# Altium integrated library Capacitor - Ceramic - Sumsung.IntLib: 1421 symbols (part 20 of 22)
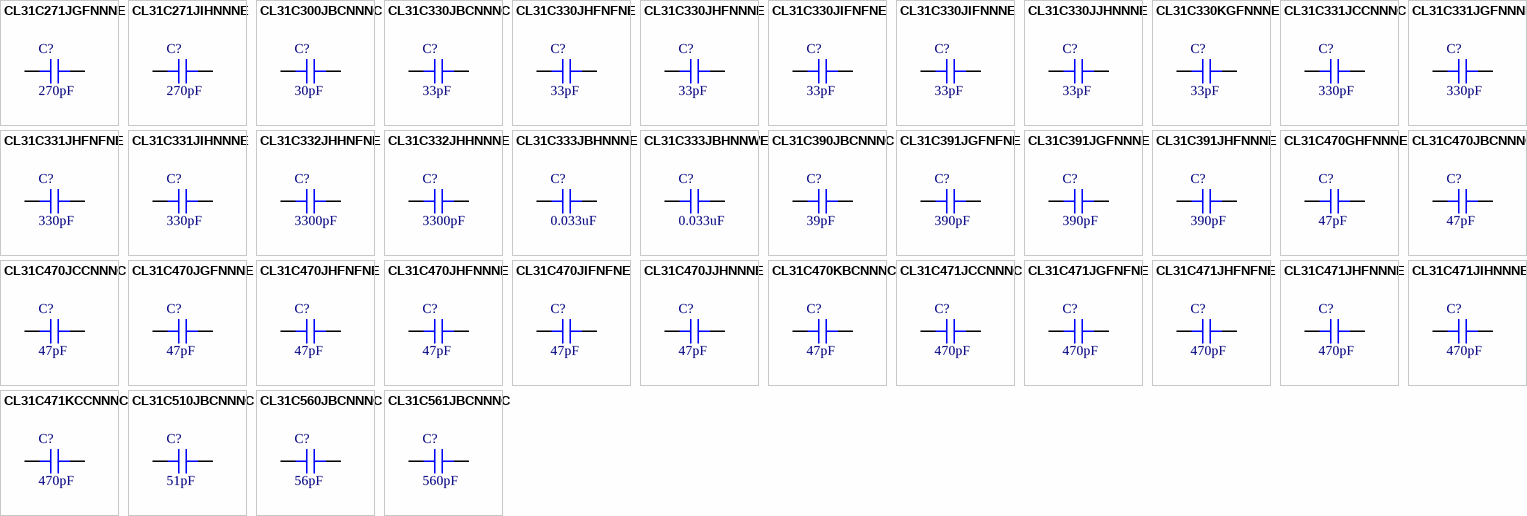
[diagram p54: symbols CL31C271JGFNNNE to CL31C561JBCNNNC]

## CL31C470JGFNNNE
designator C?, comment 47pF
CAP CER 47PF 500V NP0 1206; Part Number: CL31C470JGFNNNE; Manufacturer: Samsung Electro-Mechanics America, Inc.; TemperatureRange: -55C ~ 125C; TemperatureCoefficient: C0G, NP0; Tolerance: 5%; Value: 47pF; PartId: 15430; Supplier 1: Digi-Key; Supplier Part Number 1: 1276-3267-2-ND; ComponentLink1Description: Datasheet; ComponentLink1URL: http://www.samsungsem.com/kr/support/product-search/mlcc/CL31C470JGFNNNE.jsp; ComponentLink2Description: Digi-Key Listing; ComponentLink2URL: https://www.digikey.com/product-detail/en/samsung-electro-mechanics-america-inc/CL31C470JGFNNNE/1276-3267-2-ND/3888925; Voltage: 500V; Price: 0.042; Device Package: 1206 (3216 Metric)
footprint CAP 1206/3216
pins: 1, 2

## CL31C470JHFNFNE
designator C?, comment 47pF
CAP CER 47PF 630V NP0 1206; Part Number: CL31C470JHFNFNE; Manufacturer: Samsung Electro-Mechanics America, Inc.; TemperatureRange: -55C ~ 125C; TemperatureCoefficient: C0G, NP0; Tolerance: 5%; Value: 47pF; PartId: 15486; Supplier 1: Digi-Key; Supplier Part Number 1: 1276-3268-2-ND; ComponentLink1Description: Datasheet; ComponentLink1URL: http://www.samsungsem.com/kr/support/product-search/mlcc/CL31C470JHFNFNE.jsp; ComponentLink2Description: Digi-Key Listing; ComponentLink2URL: https://www.digikey.com/product-detail/en/samsung-electro-mechanics-america-inc/CL31C470JHFNFNE/1276-3268-2-ND/3888926; Voltage: 630V; Price: 0.0834; Device Package: 1206 (3216 Metric)
footprint CAP 1206/3216
pins: 1, 2

## CL31C470JHFNNNE
designator C?, comment 47pF
CAP CER 47PF 630V NP0 1206; Part Number: CL31C470JHFNNNE; Manufacturer: Samsung Electro-Mechanics America, Inc.; TemperatureRange: -55C ~ 125C; TemperatureCoefficient: C0G, NP0; Tolerance: 5%; Value: 47pF; PartId: 15418; Supplier 1: Digi-Key; Supplier Part Number 1: 1276-3269-2-ND; ComponentLink1Description: Datasheet; ComponentLink1URL: http://www.samsungsem.com/kr/support/product-search/mlcc/CL31C470JHFNNNE.jsp; ComponentLink2Description: Digi-Key Listing; ComponentLink2URL: https://www.digikey.com/product-detail/en/samsung-electro-mechanics-america-inc/CL31C470JHFNNNE/1276-3269-2-ND/3888927; Voltage: 630V; Price: 0.0709; Device Package: 1206 (3216 Metric)
footprint CAP 1206/3216
pins: 1, 2

## CL31C470JIFNFNE
designator C?, comment 47pF
CAP CER 47PF 1KV NP0 1206; Part Number: CL31C470JIFNFNE; Manufacturer: Samsung Electro-Mechanics America, Inc.; TemperatureRange: -55C ~ 125C; TemperatureCoefficient: C0G, NP0; Tolerance: 5%; Voltage: 1000V (1kV); Value: 47pF; PartId: 15404; Supplier 1: Digi-Key; Supplier Part Number 1: 1276-3270-2-ND; ComponentLink1Description: Datasheet; ComponentLink1URL: http://www.samsungsem.com/kr/support/product-search/mlcc/CL31C470JIFNFNE.jsp; ComponentLink2Description: Digi-Key Listing; ComponentLink2URL: https://www.digikey.com/product-detail/en/samsung-electro-mechanics-america-inc/CL31C470JIFNFNE/1276-3270-2-ND/3888928; Price: 0.0374; Device Package: 1206 (3216 Metric)
footprint CAP 1206/3216
pins: 1, 2

## CL31C470JJHNNNE
designator C?, comment 47pF
CAP CER 47PF 2KV NP0 1206; Part Number: CL31C470JJHNNNE; Manufacturer: Samsung Electro-Mechanics America, Inc.; TemperatureRange: -55C ~ 125C; TemperatureCoefficient: C0G, NP0; Tolerance: 5%; Voltage: 2000V (2kV); Value: 47pF; PartId: 15487; Supplier 1: Digi-Key; Supplier Part Number 1: 1276-3272-2-ND; ComponentLink1Description: Datasheet; ComponentLink1URL: http://www.samsungsem.com/kr/support/product-search/mlcc/CL31C470JJHNNNE.jsp; ComponentLink2Description: Digi-Key Listing; ComponentLink2URL: https://www.digikey.com/product-detail/en/samsung-electro-mechanics-america-inc/CL31C470JJHNNNE/1276-3272-2-ND/3888930; Price: 0.0874; Device Package: 1206 (3216 Metric)
footprint CAP 1206/3216
pins: 1, 2

## CL31C470KBCNNNC
designator C?, comment 47pF
CAP CER 47PF 50V NP0 1206; Part Number: CL31C470KBCNNNC; Manufacturer: Samsung Electro-Mechanics America, Inc.; TemperatureRange: -55C ~ 125C; TemperatureCoefficient: C0G, NP0; Tolerance: 10%; Value: 47pF; PartId: 17290; Supplier 1: Digi-Key; Supplier Part Number 1: 1276-2839-2-ND; ComponentLink1Description: Datasheet; ComponentLink1URL: http://www.samsungsem.com/kr/support/product-search/mlcc/__icsFiles/afieldfile/2016/08/18/S_CL31C470KBCNNNC.pdf; ComponentLink2Description: Digi-Key Listing; ComponentLink2URL: https://www.digikey.com/product-detail/en/samsung-electro-mechanics-america-inc/CL31C470KBCNNNC/1276-2839-2-ND/3888497; Voltage: 50V; Price: 0.0346; Device Package: 1206 (3216 Metric)
footprint CAP 1206/3216 - 1.0MM
pins: 1, 2

## CL31C471JCCNNNC
designator C?, comment 470pF
CAP CER 470PF 100V NP0 1206; Part Number: CL31C471JCCNNNC; Manufacturer: Samsung Electro-Mechanics America, Inc.; TemperatureRange: -55C ~ 125C; TemperatureCoefficient: C0G, NP0; Tolerance: 5%; Value: 470pF; PartId: 17211; Supplier 1: Digi-Key; Supplier Part Number 1: 1276-2840-2-ND; ComponentLink1Description: Datasheet; ComponentLink1URL: http://www.samsungsem.com/kr/support/product-search/mlcc/__icsFiles/afieldfile/2016/08/18/S_CL31C471JCCNNNC.pdf; ComponentLink2Description: Digi-Key Listing; ComponentLink2URL: https://www.digikey.com/product-detail/en/samsung-electro-mechanics-america-inc/CL31C471JCCNNNC/1276-2840-2-ND/3888498; Voltage: 100V; Price: 0.0783; Device Package: 1206 (3216 Metric)
footprint CAP 1206/3216 - 1.0MM
pins: 1, 2

## CL31C471JGFNFNE
designator C?, comment 470pF
CAP CER 470PF 500V NP0 1206; Part Number: CL31C471JGFNFNE; Manufacturer: Samsung Electro-Mechanics America, Inc.; TemperatureRange: -55C ~ 125C; TemperatureCoefficient: C0G, NP0; Tolerance: 5%; Value: 470pF; PartId: 15482; Supplier 1: Digi-Key; Supplier Part Number 1: 1276-3274-2-ND; ComponentLink1Description: Datasheet; ComponentLink1URL: http://www.samsungsem.com/kr/support/product-search/mlcc/CL31C471JGFNFNE.jsp; ComponentLink2Description: Digi-Key Listing; ComponentLink2URL: https://www.digikey.com/product-detail/en/samsung-electro-mechanics-america-inc/CL31C471JGFNFNE/1276-3274-2-ND/3888932; Voltage: 500V; Price: 0.0563; Device Package: 1206 (3216 Metric)
footprint CAP 1206/3216
pins: 1, 2

## CL31C471JHFNFNE
designator C?, comment 470pF
CAP CER 470PF 630V NP0 1206; Part Number: CL31C471JHFNFNE; Manufacturer: Samsung Electro-Mechanics America, Inc.; TemperatureRange: -55C ~ 125C; TemperatureCoefficient: C0G, NP0; Tolerance: 5%; Value: 470pF; PartId: 15453; Supplier 1: Digi-Key; Supplier Part Number 1: 1276-3277-2-ND; ComponentLink1Description: Datasheet; ComponentLink1URL: http://www.samsungsem.com/kr/support/product-search/mlcc/CL31C471JHFNFNE.jsp; ComponentLink2Description: Digi-Key Listing; ComponentLink2URL: https://www.digikey.com/product-detail/en/samsung-electro-mechanics-america-inc/CL31C471JHFNFNE/1276-3277-2-ND/3888935; Voltage: 630V; Price: 0.0582; Device Package: 1206 (3216 Metric)
footprint CAP 1206/3216
pins: 1, 2

## CL31C471JHFNNNE
designator C?, comment 470pF
CAP CER 470PF 630V NP0 1206; Part Number: CL31C471JHFNNNE; Manufacturer: Samsung Electro-Mechanics America, Inc.; TemperatureRange: -55C ~ 125C; TemperatureCoefficient: C0G, NP0; Tolerance: 5%; Value: 470pF; PartId: 15454; Supplier 1: Digi-Key; Supplier Part Number 1: 1276-3278-2-ND; ComponentLink1Description: Datasheet; ComponentLink1URL: http://www.samsungsem.com/kr/support/product-search/mlcc/CL31C471JHFNNNE.jsp; ComponentLink2Description: Digi-Key Listing; ComponentLink2URL: https://www.digikey.com/product-detail/en/samsung-electro-mechanics-america-inc/CL31C471JHFNNNE/1276-3278-2-ND/3888936; Voltage: 630V; Price: 0.0582; Device Package: 1206 (3216 Metric)
footprint CAP 1206/3216
pins: 1, 2

## CL31C471JIHNNNE
designator C?, comment 470pF
CAP CER 470PF 1KV NP0 1206; Part Number: CL31C471JIHNNNE; Manufacturer: Samsung Electro-Mechanics America, Inc.; TemperatureRange: -55C ~ 125C; TemperatureCoefficient: C0G, NP0; Tolerance: 5%; Voltage: 1000V (1kV); Value: 470pF; PartId: 17928; Supplier 1: Digi-Key; Supplier Part Number 1: 1276-3279-2-ND; ComponentLink1Description: Datasheet; ComponentLink1URL: http://www.samsungsem.com/kr/support/product-search/mlcc/__icsFiles/afieldfile/2016/08/18/S_CL31C471JIHNNNE.pdf; ComponentLink2Description: Digi-Key Listing; ComponentLink2URL: https://www.digikey.com/product-detail/en/samsung-electro-mechanics-america-inc/CL31C471JIHNNNE/1276-3279-2-ND/3888937; Price: 0.1926; Device Package: 1206 (3216 Metric)
footprint CAP 1206/3216 - 1.8MM
pins: 1, 2

## CL31C471KCCNNNC
designator C?, comment 470pF
CAP CER 470PF 100V NP0 1206; Part Number: CL31C471KCCNNNC; Manufacturer: Samsung Electro-Mechanics America, Inc.; TemperatureRange: -55C ~ 125C; TemperatureCoefficient: C0G, NP0; Tolerance: 10%; Value: 470pF; PartId: 17151; Supplier 1: Digi-Key; Supplier Part Number 1: 1276-2842-2-ND; ComponentLink1Description: Datasheet; ComponentLink1URL: http://www.samsungsem.com/kr/support/product-search/mlcc/__icsFiles/afieldfile/2016/08/18/S_CL31C471KCCNNNC.pdf; ComponentLink2Description: Digi-Key Listing; ComponentLink2URL: https://www.digikey.com/product-detail/en/samsung-electro-mechanics-america-inc/CL31C471KCCNNNC/1276-2842-2-ND/3888500; Voltage: 100V; Price: 0.0256; Device Package: 1206 (3216 Metric)
footprint CAP 1206/3216 - 1.0MM
pins: 1, 2

## CL31C510JBCNNNC
designator C?, comment 51pF
CAP CER 51PF 50V NP0 1206; Part Number: CL31C510JBCNNNC; Manufacturer: Samsung Electro-Mechanics America, Inc.; TemperatureRange: -55C ~ 125C; TemperatureCoefficient: C0G, NP0; Tolerance: 5%; Value: 51pF; PartId: 17298; Supplier 1: Digi-Key; Supplier Part Number 1: 1276-2844-2-ND; ComponentLink1Description: Datasheet; ComponentLink1URL: http://www.samsungsem.com/kr/support/product-search/mlcc/__icsFiles/afieldfile/2016/08/18/S_CL31C510JBCNNNC.pdf; ComponentLink2Description: Digi-Key Listing; ComponentLink2URL: https://www.digikey.com/product-detail/en/samsung-electro-mechanics-america-inc/CL31C510JBCNNNC/1276-2844-2-ND/3888502; Voltage: 50V; Price: 0.0131; Device Package: 1206 (3216 Metric)
footprint CAP 1206/3216 - 1.0MM
pins: 1, 2

## CL31C560JBCNNNC
designator C?, comment 56pF
CAP CER 56PF 50V NP0 1206; Part Number: CL31C560JBCNNNC; Manufacturer: Samsung Electro-Mechanics America, Inc.; TemperatureRange: -55C ~ 125C; TemperatureCoefficient: C0G, NP0; Tolerance: 5%; Value: 56pF; PartId: 17083; Supplier 1: Digi-Key; Supplier Part Number 1: 1276-1266-2-ND; ComponentLink1Description: Datasheet; ComponentLink1URL: http://www.samsungsem.com/kr/support/product-search/mlcc/__icsFiles/afieldfile/2016/08/18/S_CL31C560JBCNNNC.pdf; ComponentLink2Description: Digi-Key Listing; ComponentLink2URL: https://www.digikey.com/product-detail/en/samsung-electro-mechanics-america-inc/CL31C560JBCNNNC/1276-1266-2-ND/3886924; Voltage: 50V; Price: 0.033; Device Package: 1206 (3216 Metric)
footprint CAP 1206/3216 - 1.0MM
pins: 1, 2

## CL31C561JBCNNNC
designator C?, comment 560pF
CAP CER 560PF 50V NP0 1206; Part Number: CL31C561JBCNNNC; Manufacturer: Samsung Electro-Mechanics America, Inc.; TemperatureRange: -55C ~ 125C; TemperatureCoefficient: C0G, NP0; Tolerance: 5%; Value: 560pF; PartId: 17162; Supplier 1: Digi-Key; Supplier Part Number 1: 1276-2845-2-ND; ComponentLink1Description: Datasheet; ComponentLink1URL: http://www.samsungsem.com/kr/support/product-search/mlcc/__icsFiles/afieldfile/2016/08/18/S_CL31C561JBCNNNC.pdf; ComponentLink2Description: Digi-Key Listing; ComponentLink2URL: https://www.digikey.com/product-detail/en/samsung-electro-mechanics-america-inc/CL31C561JBCNNNC/1276-2845-2-ND/3888503; Voltage: 50V; Price: 0.0511; Device Package: 1206 (3216 Metric)
footprint CAP 1206/3216 - 1.0MM
pins: 1, 2

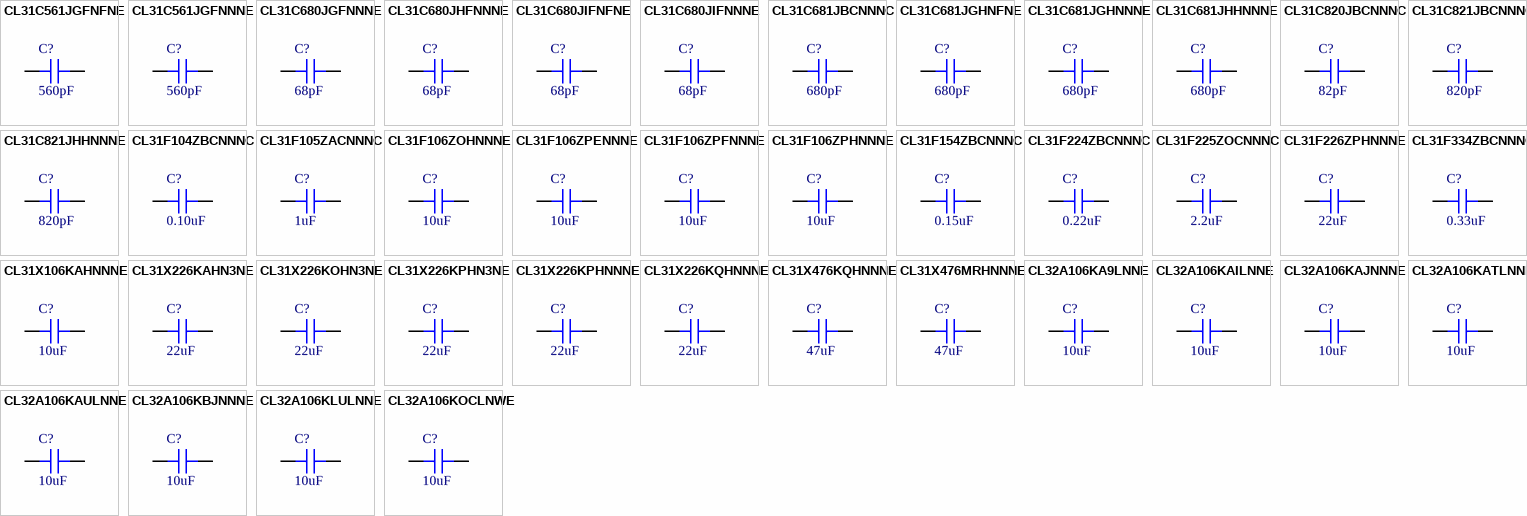
[diagram p32: symbols CL31C561JGFNFNE to CL32A106KOCLNWE]

## CL31C561JGFNFNE
designator C?, comment 560pF
CAP CER 560PF 500V NP0 1206; Part Number: CL31C561JGFNFNE; Manufacturer: Samsung Electro-Mechanics America, Inc.; TemperatureRange: -55C ~ 125C; TemperatureCoefficient: C0G, NP0; Tolerance: 5%; Value: 560pF; PartId: 15498; Supplier 1: Digi-Key; Supplier Part Number 1: 1276-3282-2-ND; ComponentLink1Description: Datasheet; ComponentLink1URL: http://www.samsungsem.com/kr/support/product-search/mlcc/CL31C561JGFNFNE.jsp; ComponentLink2Description: Digi-Key Listing; ComponentLink2URL: https://www.digikey.com/product-detail/en/samsung-electro-mechanics-america-inc/CL31C561JGFNFNE/1276-3282-2-ND/3888940; Voltage: 500V; Price: 0.0721; Device Package: 1206 (3216 Metric)
footprint CAP 1206/3216
pins: 1, 2

## CL31C561JGFNNNE
designator C?, comment 560pF
CAP CER 560PF 500V NP0 1206; Part Number: CL31C561JGFNNNE; Manufacturer: Samsung Electro-Mechanics America, Inc.; TemperatureRange: -55C ~ 125C; TemperatureCoefficient: C0G, NP0; Tolerance: 5%; Value: 560pF; PartId: 15458; Supplier 1: Digi-Key; Supplier Part Number 1: 1276-3283-2-ND; ComponentLink1Description: Datasheet; ComponentLink1URL: http://www.samsungsem.com/kr/support/product-search/mlcc/CL31C561JGFNNNE.jsp; ComponentLink2Description: Digi-Key Listing; ComponentLink2URL: https://www.digikey.com/product-detail/en/samsung-electro-mechanics-america-inc/CL31C561JGFNNNE/1276-3283-2-ND/3888941; Voltage: 500V; Price: 0.06; Device Package: 1206 (3216 Metric)
footprint CAP 1206/3216
pins: 1, 2

## CL31C680JGFNNNE
designator C?, comment 68pF
CAP CER 68PF 500V NP0 1206; Part Number: CL31C680JGFNNNE; Manufacturer: Samsung Electro-Mechanics America, Inc.; TemperatureRange: -55C ~ 125C; TemperatureCoefficient: C0G, NP0; Tolerance: 5%; Value: 68pF; PartId: 17766; Supplier 1: Digi-Key; Supplier Part Number 1: 1276-6633-2-ND; ComponentLink1Description: Datasheet; ComponentLink1URL: http://www.samsungsem.com/kr/support/product-search/mlcc/__icsFiles/afieldfile/2016/08/18/S_CL31C680JGFNNNE.pdf; ComponentLink2Description: Digi-Key Listing; ComponentLink2URL: https://www.digikey.com/product-detail/en/samsung-electro-mechanics-america-inc/CL31C680JGFNNNE/1276-6633-2-ND/5961117; Voltage: 500V; Price: 0.0519; Device Package: 1206 (3216 Metric)
footprint CAP 1206/3216 - 1.8MM
pins: 1, 2

## CL31C680JHFNNNE
designator C?, comment 68pF
CAP CER 68PF 630V NP0 1206; Part Number: CL31C680JHFNNNE; Manufacturer: Samsung Electro-Mechanics America, Inc.; TemperatureRange: -55C ~ 125C; TemperatureCoefficient: C0G, NP0; Tolerance: 5%; Value: 68pF; PartId: 15421; Supplier 1: Digi-Key; Supplier Part Number 1: 1276-3284-2-ND; ComponentLink1Description: Datasheet; ComponentLink1URL: http://www.samsungsem.com/kr/support/product-search/mlcc/CL31C680JHFNNNE.jsp; ComponentLink2Description: Digi-Key Listing; ComponentLink2URL: https://www.digikey.com/product-detail/en/samsung-electro-mechanics-america-inc/CL31C680JHFNNNE/1276-3284-2-ND/3888942; Voltage: 630V; Price: 0.0779; Device Package: 1206 (3216 Metric)
footprint CAP 1206/3216
pins: 1, 2

## CL31C680JIFNFNE
designator C?, comment 68pF
CAP CER 68PF 1KV NP0 1206; Part Number: CL31C680JIFNFNE; Manufacturer: Samsung Electro-Mechanics America, Inc.; TemperatureRange: -55C ~ 125C; TemperatureCoefficient: C0G, NP0; Tolerance: 5%; Voltage: 1000V (1kV); Value: 68pF; PartId: 15405; Supplier 1: Digi-Key; Supplier Part Number 1: 1276-3285-2-ND; ComponentLink1Description: Datasheet; ComponentLink1URL: http://www.samsungsem.com/kr/support/product-search/mlcc/CL31C680JIFNFNE.jsp; ComponentLink2Description: Digi-Key Listing; ComponentLink2URL: https://www.digikey.com/product-detail/en/samsung-electro-mechanics-america-inc/CL31C680JIFNFNE/1276-3285-2-ND/3888943; Price: 0.0473; Device Package: 1206 (3216 Metric)
footprint CAP 1206/3216
pins: 1, 2

## CL31C680JIFNNNE
designator C?, comment 68pF
CAP CER 68PF 1KV NP0 1206; Part Number: CL31C680JIFNNNE; Manufacturer: Samsung Electro-Mechanics America, Inc.; TemperatureRange: -55C ~ 125C; TemperatureCoefficient: C0G, NP0; Tolerance: 5%; Voltage: 1000V (1kV); Value: 68pF; PartId: 15462; Supplier 1: Digi-Key; Supplier Part Number 1: 1276-3286-2-ND; ComponentLink1Description: Datasheet; ComponentLink1URL: http://www.samsungsem.com/kr/support/product-search/mlcc/CL31C680JIFNNNE.jsp; ComponentLink2Description: Digi-Key Listing; ComponentLink2URL: https://www.digikey.com/product-detail/en/samsung-electro-mechanics-america-inc/CL31C680JIFNNNE/1276-3286-2-ND/3888944; Price: 0.0639; Device Package: 1206 (3216 Metric)
footprint CAP 1206/3216
pins: 1, 2

## CL31C681JBCNNNC
designator C?, comment 680pF
CAP CER 680PF 50V NP0 1206; Part Number: CL31C681JBCNNNC; Manufacturer: Samsung Electro-Mechanics America, Inc.; TemperatureRange: -55C ~ 125C; TemperatureCoefficient: C0G, NP0; Tolerance: 5%; Value: 680pF; PartId: 17297; Supplier 1: Digi-Key; Supplier Part Number 1: 1276-2849-2-ND; ComponentLink1Description: Datasheet; ComponentLink1URL: http://www.samsungsem.com/kr/support/product-search/mlcc/__icsFiles/afieldfile/2016/08/18/S_CL31C681JBCNNNC.pdf; ComponentLink2Description: Digi-Key Listing; ComponentLink2URL: https://www.digikey.com/product-detail/en/samsung-electro-mechanics-america-inc/CL31C681JBCNNNC/1276-2849-2-ND/3888507; Voltage: 50V; Price: 0.0203; Device Package: 1206 (3216 Metric)
footprint CAP 1206/3216 - 1.0MM
pins: 1, 2

## CL31C681JGHNFNE
designator C?, comment 680pF
CAP CER 680PF 500V NP0 1206; Part Number: CL31C681JGHNFNE; Manufacturer: Samsung Electro-Mechanics America, Inc.; TemperatureRange: -55C ~ 125C; TemperatureCoefficient: C0G, NP0; Tolerance: 5%; Value: 680pF; PartId: 15455; Supplier 1: Digi-Key; Supplier Part Number 1: 1276-3289-2-ND; ComponentLink1Description: Datasheet; ComponentLink1URL: http://www.samsungsem.com/kr/support/product-search/mlcc/CL31C681JGHNFNE.jsp; ComponentLink2Description: Digi-Key Listing; ComponentLink2URL: https://www.digikey.com/product-detail/en/samsung-electro-mechanics-america-inc/CL31C681JGHNFNE/1276-3289-2-ND/3888947; Voltage: 500V; Price: 0.0582; Device Package: 1206 (3216 Metric)
footprint CAP 1206/3216
pins: 1, 2

## CL31C681JGHNNNE
designator C?, comment 680pF
CAP CER 680PF 500V NP0 1206; Part Number: CL31C681JGHNNNE; Manufacturer: Samsung Electro-Mechanics America, Inc.; TemperatureRange: -55C ~ 125C; TemperatureCoefficient: C0G, NP0; Tolerance: 5%; Value: 680pF; PartId: 15490; Supplier 1: Digi-Key; Supplier Part Number 1: 1276-3290-2-ND; ComponentLink1Description: Datasheet; ComponentLink1URL: http://www.samsungsem.com/kr/support/product-search/mlcc/CL31C681JGHNNNE.jsp; ComponentLink2Description: Digi-Key Listing; ComponentLink2URL: https://www.digikey.com/product-detail/en/samsung-electro-mechanics-america-inc/CL31C681JGHNNNE/1276-3290-2-ND/3888948; Voltage: 500V; Price: 0.0391; Device Package: 1206 (3216 Metric)
footprint CAP 1206/3216
pins: 1, 2

## CL31C681JHHNNNE
designator C?, comment 680pF
CAP CER 680PF 630V NP0 1206; Part Number: CL31C681JHHNNNE; Manufacturer: Samsung Electro-Mechanics America, Inc.; TemperatureRange: -55C ~ 125C; TemperatureCoefficient: C0G, NP0; Tolerance: 5%; Value: 680pF; PartId: 15449; Supplier 1: Digi-Key; Supplier Part Number 1: 1276-3291-2-ND; ComponentLink1Description: Datasheet; ComponentLink1URL: http://www.samsungsem.com/kr/support/product-search/mlcc/CL31C681JHHNNNE.jsp; ComponentLink2Description: Digi-Key Listing; ComponentLink2URL: https://www.digikey.com/product-detail/en/samsung-electro-mechanics-america-inc/CL31C681JHHNNNE/1276-3291-2-ND/3888949; Voltage: 630V; Price: 0.0582; Device Package: 1206 (3216 Metric)
footprint CAP 1206/3216
pins: 1, 2

## CL31C820JBCNNNC
designator C?, comment 82pF
CAP CER 82PF 50V NP0 1206; Part Number: CL31C820JBCNNNC; Manufacturer: Samsung Electro-Mechanics America, Inc.; TemperatureRange: -55C ~ 125C; TemperatureCoefficient: C0G, NP0; Tolerance: 5%; Value: 82pF; PartId: 17302; Supplier 1: Digi-Key; Supplier Part Number 1: 1276-1848-2-ND; ComponentLink1Description: Datasheet; ComponentLink1URL: http://www.samsungsem.com/kr/support/product-search/mlcc/__icsFiles/afieldfile/2016/08/18/S_CL31C820JBCNNNC.pdf; ComponentLink2Description: Digi-Key Listing; ComponentLink2URL: https://www.digikey.com/product-detail/en/samsung-electro-mechanics-america-inc/CL31C820JBCNNNC/1276-1848-2-ND/3887506; Voltage: 50V; Price: 0.0369; Device Package: 1206 (3216 Metric)
footprint CAP 1206/3216 - 1.0MM
pins: 1, 2

## CL31C821JBCNNNC
designator C?, comment 820pF
CAP CER 820PF 50V NP0 1206; Part Number: CL31C821JBCNNNC; Manufacturer: Samsung Electro-Mechanics America, Inc.; TemperatureRange: -55C ~ 125C; TemperatureCoefficient: C0G, NP0; Tolerance: 5%; Value: 820pF; PartId: 17161; Supplier 1: Digi-Key; Supplier Part Number 1: 1276-2852-2-ND; ComponentLink1Description: Datasheet; ComponentLink1URL: http://www.samsungsem.com/kr/support/product-search/mlcc/__icsFiles/afieldfile/2016/08/18/S_CL31C821JBCNNNC.pdf; ComponentLink2Description: Digi-Key Listing; ComponentLink2URL: https://www.digikey.com/product-detail/en/samsung-electro-mechanics-america-inc/CL31C821JBCNNNC/1276-2852-2-ND/3888510; Voltage: 50V; Price: 0.0558; Device Package: 1206 (3216 Metric)
footprint CAP 1206/3216 - 1.0MM
pins: 1, 2

## CL31C821JHHNNNE
designator C?, comment 820pF
CAP CER 820PF 630V NP0 1206; Part Number: CL31C821JHHNNNE; Manufacturer: Samsung Electro-Mechanics America, Inc.; TemperatureRange: -55C ~ 125C; TemperatureCoefficient: C0G, NP0; Tolerance: 5%; Value: 820pF; PartId: 15460; Supplier 1: Digi-Key; Supplier Part Number 1: 1276-3293-2-ND; ComponentLink1Description: Datasheet; ComponentLink1URL: http://www.samsungsem.com/kr/support/product-search/mlcc/CL31C821JHHNNNE.jsp; ComponentLink2Description: Digi-Key Listing; ComponentLink2URL: https://www.digikey.com/product-detail/en/samsung-electro-mechanics-america-inc/CL31C821JHHNNNE/1276-3293-2-ND/3888951; Voltage: 630V; Price: 0.06; Device Package: 1206 (3216 Metric)
footprint CAP 1206/3216
pins: 1, 2

## CL31F104ZBCNNNC
designator C?, comment 0.10uF
CAP CER 0.1UF 50V Y5V 1206; Part Number: CL31F104ZBCNNNC; Manufacturer: Samsung Electro-Mechanics America, Inc.; TemperatureRange: -30C ~ 85C; TemperatureCoefficient: Y5V (F); Tolerance: -20%, +80%; Value: 0.10uF; PartId: 17144; Supplier 1: Digi-Key; Supplier Part Number 1: 1276-2856-2-ND; ComponentLink1Description: Datasheet; ComponentLink1URL: //media.digikey.com/pdf/Data%20Sheets/Samsung%20PDFs/MLCC_Catalog_2015.pdf; ComponentLink2Description: Digi-Key Listing; ComponentLink2URL: https://www.digikey.com/product-detail/en/samsung-electro-mechanics-america-inc/CL31F104ZBCNNNC/1276-2856-2-ND/3888514; Voltage: 50V; Price: 0.0313; Device Package: 1206 (3216 Metric)
footprint CAP 1206/3216 - 1.0MM
pins: 1, 2

## CL31F105ZACNNNC
designator C?, comment 1uF
CAP CER 1UF 25V Y5V 1206; Part Number: CL31F105ZACNNNC; Manufacturer: Samsung Electro-Mechanics America, Inc.; TemperatureRange: -30C ~ 85C; TemperatureCoefficient: Y5V (F); Tolerance: -20%, +80%; Value: 1uF; PartId: 17024; Supplier 1: Digi-Key; Supplier Part Number 1: 1276-1849-2-ND; ComponentLink1Description: Datasheet; ComponentLink1URL: http://www.samsungsem.com/kr/front/downloadcms.do?path=/kr/support/product-search/mlcc/__icsFiles/afieldfile/2014/11/05&fileName=C_CL31F105ZACNNNC.pdf; ComponentLink2Description: Digi-Key Listing; ComponentLink2URL: https://www.digikey.com/product-detail/en/samsung-electro-mechanics-america-inc/CL31F105ZACNNNC/1276-1849-2-ND/3887507; Voltage: 25V; Price: 0.0558; Device Package: 1206 (3216 Metric)
footprint CAP 1206/3216 - 1.0MM
pins: 1, 2

## CL31F106ZOHNNNE
designator C?, comment 10uF
CAP CER 10UF 16V Y5V 1206; Part Number: CL31F106ZOHNNNE; Manufacturer: Samsung Electro-Mechanics America, Inc.; TemperatureRange: -30C ~ 85C; TemperatureCoefficient: Y5V (F); Tolerance: -20%, +80%; Value: 10uF; PartId: 15853; Supplier 1: Digi-Key; Supplier Part Number 1: 1276-1312-2-ND; ComponentLink1Description: Datasheet; ComponentLink1URL: http://www.samsungsem.com/kr/front/downloadcms.do?path=/kr/support/product-search/mlcc/__icsFiles/afieldfile/2014/11/05&fileName=C_CL31F106ZOHNNNE.pdf; ComponentLink2Description: Digi-Key Listing; ComponentLink2URL: https://www.digikey.com/product-detail/en/samsung-electro-mechanics-america-inc/CL31F106ZOHNNNE/1276-1312-2-ND/3886970; Voltage: 16V; Price: 0.0482; Device Package: 1206 (3216 Metric)
footprint CAP 1206/3216
pins: 1, 2

## CL31F106ZPENNNE
designator C?, comment 10uF
CAP CER 10UF 10V Y5V 1206; Part Number: CL31F106ZPENNNE; Manufacturer: Samsung Electro-Mechanics America, Inc.; TemperatureRange: -30C ~ 85C; TemperatureCoefficient: Y5V (F); Tolerance: -20%, +80%; Value: 10uF; PartId: 15864; Supplier 1: Digi-Key; Supplier Part Number 1: 1276-3294-2-ND; ComponentLink1Description: Datasheet; ComponentLink1URL: http://www.samsungsem.com/kr/front/downloadcms.do?path=/kr/support/product-search/mlcc/__icsFiles/afieldfile/2014/11/05&fileName=C_CL31F106ZPENNNE.pdf; ComponentLink2Description: Digi-Key Listing; ComponentLink2URL: https://www.digikey.com/product-detail/en/samsung-electro-mechanics-america-inc/CL31F106ZPENNNE/1276-3294-2-ND/3888952; Voltage: 10V; Price: 0.0675; Device Package: 1206 (3216 Metric)
footprint CAP 1206/3216
pins: 1, 2

## CL31F106ZPFNNNE
designator C?, comment 10uF
CAP CER 10UF 10V Y5V 1206; Part Number: CL31F106ZPFNNNE; Manufacturer: Samsung Electro-Mechanics America, Inc.; TemperatureRange: -30C ~ 85C; TemperatureCoefficient: Y5V (F); Tolerance: -20%, +80%; Value: 10uF; PartId: 16107; Supplier 1: Digi-Key; Supplier Part Number 1: 1276-3295-2-ND; ComponentLink1Description: Datasheet; ComponentLink1URL: http://www.samsungsem.com/kr/front/downloadcms.do?path=/kr/support/product-search/mlcc/__icsFiles/afieldfile/2014/11/05&fileName=C_CL31F106ZPFNNNE.pdf; ComponentLink2Description: Digi-Key Listing; ComponentLink2URL: https://www.digikey.com/product-detail/en/samsung-electro-mechanics-america-inc/CL31F106ZPFNNNE/1276-3295-2-ND/3888953; Voltage: 10V; Price: 0.0482; Device Package: 1206 (3216 Metric)
footprint CAP 1206/3216
pins: 1, 2

## CL31F106ZPHNNNE
designator C?, comment 10uF
CAP CER 10UF 10V Y5V 1206; Part Number: CL31F106ZPHNNNE; Manufacturer: Samsung Electro-Mechanics America, Inc.; TemperatureRange: -30C ~ 85C; TemperatureCoefficient: Y5V (F); Tolerance: -20%, +80%; Value: 10uF; PartId: 16106; Supplier 1: Digi-Key; Supplier Part Number 1: 1276-1853-2-ND; ComponentLink1Description: Datasheet; ComponentLink1URL: http://www.samsungsem.com/kr/front/downloadcms.do?path=/kr/support/product-search/mlcc/__icsFiles/afieldfile/2014/11/05&fileName=C_CL31F106ZPHNNNE.pdf; ComponentLink2Description: Digi-Key Listing; ComponentLink2URL: https://www.digikey.com/product-detail/en/samsung-electro-mechanics-america-inc/CL31F106ZPHNNNE/1276-1853-2-ND/3887511; Voltage: 10V; Price: 0.0482; Device Package: 1206 (3216 Metric)
footprint CAP 1206/3216
pins: 1, 2

## CL31F154ZBCNNNC
designator C?, comment 0.15uF
CAP CER 0.15UF 50V Y5V 1206; Part Number: CL31F154ZBCNNNC; Manufacturer: Samsung Electro-Mechanics America, Inc.; TemperatureRange: -30C ~ 85C; TemperatureCoefficient: Y5V (F); Tolerance: -20%, +80%; Value: 0.15uF; PartId: 17271; Supplier 1: Digi-Key; Supplier Part Number 1: 1276-2858-2-ND; ComponentLink1Description: Datasheet; ComponentLink1URL: //media.digikey.com/pdf/Data%20Sheets/Samsung%20PDFs/CL31F154ZBCNNNC_Spec.pdf; ComponentLink2Description: Digi-Key Listing; ComponentLink2URL: https://www.digikey.com/product-detail/en/samsung-electro-mechanics-america-inc/CL31F154ZBCNNNC/1276-2858-2-ND/3888516; Voltage: 50V; Price: 0.0253; Device Package: 1206 (3216 Metric)
footprint CAP 1206/3216 - 1.0MM
pins: 1, 2

## CL31F224ZBCNNNC
designator C?, comment 0.22uF
CAP CER 0.22UF 50V Y5V 1206; Part Number: CL31F224ZBCNNNC; Manufacturer: Samsung Electro-Mechanics America, Inc.; TemperatureRange: -30C ~ 85C; TemperatureCoefficient: Y5V (F); Tolerance: -20%, +80%; Value: 0.22uF; PartId: 17306; Supplier 1: Digi-Key; Supplier Part Number 1: 1276-2859-2-ND; ComponentLink1Description: Datasheet; ComponentLink1URL: //media.digikey.com/pdf/Data%20Sheets/Samsung%20PDFs/CL31F224ZBCNNNC_Spec.pdf; ComponentLink2Description: Digi-Key Listing; ComponentLink2URL: https://www.digikey.com/product-detail/en/samsung-electro-mechanics-america-inc/CL31F224ZBCNNNC/1276-2859-2-ND/3888517; Voltage: 50V; Price: 0.016; Device Package: 1206 (3216 Metric)
footprint CAP 1206/3216 - 1.0MM
pins: 1, 2

## CL31F225ZOCNNNC
designator C?, comment 2.2uF
CAP CER 2.2UF 16V Y5V 1206; Part Number: CL31F225ZOCNNNC; Manufacturer: Samsung Electro-Mechanics America, Inc.; TemperatureRange: -30C ~ 85C; TemperatureCoefficient: Y5V (F); Tolerance: -20%, +80%; Value: 2.2uF; PartId: 17279; Supplier 1: Digi-Key; Supplier Part Number 1: 1276-1806-2-ND; ComponentLink1Description: Datasheet; ComponentLink1URL: http://www.samsungsem.com/kr/front/downloadcms.do?path=/kr/support/product-search/mlcc/__icsFiles/afieldfile/2014/11/05&fileName=C_CL31F225ZOCNNNC.pdf; ComponentLink2Description: Digi-Key Listing; ComponentLink2URL: https://www.digikey.com/product-detail/en/samsung-electro-mechanics-america-inc/CL31F225ZOCNNNC/1276-1806-2-ND/3887464; Voltage: 16V; Price: 0.0696; Device Package: 1206 (3216 Metric)
footprint CAP 1206/3216 - 1.0MM
pins: 1, 2

## CL31F226ZPHNNNE
designator C?, comment 22uF
CAP CER 22UF 10V Y5V 1206; Part Number: CL31F226ZPHNNNE; Manufacturer: Samsung Electro-Mechanics America, Inc.; TemperatureRange: -30C ~ 85C; TemperatureCoefficient: Y5V (F); Tolerance: -20%, +80%; Value: 22uF; PartId: 15874; Supplier 1: Digi-Key; Supplier Part Number 1: 1276-3296-2-ND; ComponentLink1Description: Datasheet; ComponentLink1URL: http://www.samsungsem.com/kr/support/product-search/mlcc/CL31F226ZPHNNNE.jsp; ComponentLink2Description: Digi-Key Listing; ComponentLink2URL: https://www.digikey.com/product-detail/en/samsung-electro-mechanics-america-inc/CL31F226ZPHNNNE/1276-3296-2-ND/3888954; Voltage: 10V; Price: 0.0831; Device Package: 1206 (3216 Metric)
footprint CAP 1206/3216
pins: 1, 2

## CL31F334ZBCNNNC
designator C?, comment 0.33uF
CAP CER 0.33UF 50V Y5V 1206; Part Number: CL31F334ZBCNNNC; Manufacturer: Samsung Electro-Mechanics America, Inc.; TemperatureRange: -30C ~ 85C; TemperatureCoefficient: Y5V (F); Tolerance: -20%, +80%; Value: 0.33uF; PartId: 16970; Supplier 1: Digi-Key; Supplier Part Number 1: 1276-2860-2-ND; ComponentLink1Description: Datasheet; ComponentLink1URL: //media.digikey.com/pdf/Data%20Sheets/Samsung%20PDFs/CL31F334ZBCNNNC_Spec.pdf; ComponentLink2Description: Digi-Key Listing; ComponentLink2URL: https://www.digikey.com/product-detail/en/samsung-electro-mechanics-america-inc/CL31F334ZBCNNNC/1276-2860-2-ND/3888518; Voltage: 50V; Price: 0.0199; Device Package: 1206 (3216 Metric)
footprint CAP 1206/3216 - 1.0MM
pins: 1, 2

## CL31X106KAHNNNE
designator C?, comment 10uF
CAP CER 10UF 25V X6S 1206; Part Number: CL31X106KAHNNNE; Manufacturer: Samsung Electro-Mechanics America, Inc.; TemperatureRange: -55C ~ 105C; Tolerance: 10%; Value: 10uF; PartId: 17931; Supplier 1: Digi-Key; Supplier Part Number 1: 1276-3298-2-ND; ComponentLink1Description: Datasheet; ComponentLink1URL: http://www.samsungsem.com/kr/front/downloadcms.do?path=/kr/support/product-search/mlcc/__icsFiles/afieldfile/2014/11/05&fileName=C_CL31X106KAHNNNE.pdf; ComponentLink2Description: Digi-Key Listing; ComponentLink2URL: https://www.digikey.com/product-detail/en/samsung-electro-mechanics-america-inc/CL31X106KAHNNNE/1276-3298-2-ND/3888956; TemperatureCoefficient: X6S; Voltage: 25V; Price: 0.18; Device Package: 1206 (3216 Metric)
footprint CAP 1206/3216 - 1.8MM
pins: 1, 2

## CL31X226KAHN3NE
designator C?, comment 22uF
CAP CER 22UF 25V X6S 1206; Part Number: CL31X226KAHN3NE; Manufacturer: Samsung Electro-Mechanics America, Inc.; TemperatureRange: -55C ~ 105C; Tolerance: 10%; Value: 22uF; PartId: 15805; Supplier 1: Digi-Key; Supplier Part Number 1: 1276-3299-2-ND; ComponentLink1Description: Datasheet; ComponentLink1URL: http://www.samsungsem.com/kr/front/downloadcms.do?path=/kr/support/product-search/mlcc/__icsFiles/afieldfile/2014/11/05&fileName=C_CL31X226KAHN3NE.pdf; ComponentLink2Description: Digi-Key Listing; ComponentLink2URL: https://www.digikey.com/product-detail/en/samsung-electro-mechanics-america-inc/CL31X226KAHN3NE/1276-3299-2-ND/3888957; TemperatureCoefficient: X6S; Voltage: 25V; Price: 0.2094; Device Package: 1206 (3216 Metric)
footprint CAP 1206/3216
pins: 1, 2

## CL31X226KOHN3NE
designator C?, comment 22uF
CAP CER 22UF 16V X6S 1206; Part Number: CL31X226KOHN3NE; Manufacturer: Samsung Electro-Mechanics America, Inc.; TemperatureRange: -55C ~ 105C; Tolerance: 10%; Value: 22uF; PartId: 15893; Supplier 1: Digi-Key; Supplier Part Number 1: 1276-3300-2-ND; ComponentLink1Description: Datasheet; ComponentLink1URL: http://www.samsungsem.com/kr/front/downloadcms.do?path=/kr/support/product-search/mlcc/__icsFiles/afieldfile/2014/11/05&fileName=C_CL31X226KOHN3NE.pdf; ComponentLink2Description: Digi-Key Listing; ComponentLink2URL: https://www.digikey.com/product-detail/en/samsung-electro-mechanics-america-inc/CL31X226KOHN3NE/1276-3300-2-ND/3888958; TemperatureCoefficient: X6S; Voltage: 16V; Price: 0.1404; Device Package: 1206 (3216 Metric)
footprint CAP 1206/3216
pins: 1, 2

## CL31X226KPHN3NE
designator C?, comment 22uF
CAP CER 22UF 10V X6S 1206; Part Number: CL31X226KPHN3NE; Manufacturer: Samsung Electro-Mechanics America, Inc.; TemperatureRange: -55C ~ 105C; Tolerance: 10%; Value: 22uF; PartId: 15978; Supplier 1: Digi-Key; Supplier Part Number 1: 1276-3301-2-ND; ComponentLink1Description: Datasheet; ComponentLink1URL: http://www.samsungsem.com/kr/front/downloadcms.do?path=/kr/support/product-search/mlcc/__icsFiles/afieldfile/2014/11/05&fileName=C_CL31X226KPHN3NE.pdf; ComponentLink2Description: Digi-Key Listing; ComponentLink2URL: https://www.digikey.com/product-detail/en/samsung-electro-mechanics-america-inc/CL31X226KPHN3NE/1276-3301-2-ND/3888959; TemperatureCoefficient: X6S; Voltage: 10V; Price: 0.1189; Device Package: 1206 (3216 Metric)
footprint CAP 1206/3216
pins: 1, 2

## CL31X226KPHNNNE
designator C?, comment 22uF
CAP CER 22UF 10V X6S 1206; Part Number: CL31X226KPHNNNE; Manufacturer: Samsung Electro-Mechanics America, Inc.; TemperatureRange: -55C ~ 105C; Tolerance: 10%; Value: 22uF; PartId: 15995; Supplier 1: Digi-Key; Supplier Part Number 1: 1276-3302-2-ND; ComponentLink1Description: Datasheet; ComponentLink1URL: http://www.samsungsem.com/kr/support/library/product-catalog/__icsFiles/afieldfile/2015/11/18/MLCC.pdf; ComponentLink2Description: Digi-Key Listing; ComponentLink2URL: https://www.digikey.com/product-detail/en/samsung-electro-mechanics-america-inc/CL31X226KPHNNNE/1276-3302-2-ND/3888960; TemperatureCoefficient: X6S; Voltage: 10V; Price: 0.1848; Device Package: 1206 (3216 Metric)
footprint CAP 1206/3216
pins: 1, 2

## CL31X226KQHNNNE
designator C?, comment 22uF
CAP CER 22UF 6.3V X6S 1206; Part Number: CL31X226KQHNNNE; Manufacturer: Samsung Electro-Mechanics America, Inc.; TemperatureRange: -55C ~ 105C; Tolerance: 10%; Value: 22uF; PartId: 17474; Supplier 1: Digi-Key; Supplier Part Number 1: 1276-3303-2-ND; ComponentLink1Description: Datasheet; ComponentLink1URL: http://www.samsungsem.com/kr/front/downloadcms.do?path=/kr/support/product-search/mlcc/__icsFiles/afieldfile/2014/11/05&fileName=C_CL31X226KQHNNNE.pdf; ComponentLink2Description: Digi-Key Listing; ComponentLink2URL: https://www.digikey.com/product-detail/en/samsung-electro-mechanics-america-inc/CL31X226KQHNNNE/1276-3303-2-ND/3888961; TemperatureCoefficient: X6S; Voltage: 6.3V; Price: 0.0828; Device Package: 1206 (3216 Metric)
footprint CAP 1206/3216 - 1.8MM
pins: 1, 2

## CL31X476KQHNNNE
designator C?, comment 47uF
CAP CER 47UF 6.3V X6S 1206; Part Number: CL31X476KQHNNNE; Manufacturer: Samsung Electro-Mechanics America, Inc.; TemperatureRange: -55C ~ 105C; Tolerance: 10%; Value: 47uF; PartId: 17561; Supplier 1: Digi-Key; Supplier Part Number 1: 1276-6771-2-ND; ComponentLink1Description: Datasheet; ComponentLink1URL: http://www.samsungsem.com/kr/support/product-search/mlcc/__icsFiles/afieldfile/2016/08/18/S_CL31X476KQHNNNE.pdf; ComponentLink2Description: Digi-Key Listing; ComponentLink2URL: https://www.digikey.com/product-detail/en/samsung-electro-mechanics-america-inc/CL31X476KQHNNNE/1276-6771-2-ND/5961255; TemperatureCoefficient: X6S; Voltage: 6.3V; Price: 0.124; Device Package: 1206 (3216 Metric)
footprint CAP 1206/3216 - 1.8MM
pins: 1, 2

## CL31X476MRHNNNE
designator C?, comment 47uF
CAP CER 47UF 4V X6S 1206; Part Number: CL31X476MRHNNNE; Manufacturer: Samsung Electro-Mechanics America, Inc.; TemperatureRange: -55C ~ 105C; Tolerance: 20%; Value: 47uF; PartId: 17922; Supplier 1: Digi-Key; Supplier Part Number 1: 1276-3304-2-ND; ComponentLink1Description: Datasheet; ComponentLink1URL: http://www.samsungsem.com/kr/front/downloadcms.do?path=/kr/support/product-search/mlcc/__icsFiles/afieldfile/2014/11/05&fileName=C_CL31X476MRHNNNE.pdf; ComponentLink2Description: Digi-Key Listing; ComponentLink2URL: https://www.digikey.com/product-detail/en/samsung-electro-mechanics-america-inc/CL31X476MRHNNNE/1276-3304-2-ND/3888962; TemperatureCoefficient: X6S; Voltage: 4V; Price: 0.2889; Device Package: 1206 (3216 Metric)
footprint CAP 1206/3216 - 1.8MM
pins: 1, 2

## CL32A106KA9LNNE
designator C?, comment 10uF
CAP CER 10UF 25V X5R 1210; Part Number: CL32A106KA9LNNE; Manufacturer: Samsung Electro-Mechanics America, Inc.; TemperatureRange: -55C ~ 85C; Tolerance: 10%; Value: 10uF; PartId: 18095; Supplier 1: Digi-Key; Supplier Part Number 1: 1276-2882-2-ND; ComponentLink1Description: Datasheet; ComponentLink1URL: //media.digikey.com/pdf/Data%20Sheets/Samsung%20PDFs/CL32A106KA9LNNE_Spec.pdf; ComponentLink2Description: Digi-Key Listing; ComponentLink2URL: https://www.digikey.com/product-detail/en/samsung-electro-mechanics-america-inc/CL32A106KA9LNNE/1276-2882-2-ND/3888540; TemperatureCoefficient: X5R; Voltage: 25V; Price: 0.3009; Device Package: 1210 (3225 Metric)
footprint CAP 1210/3225 - 1MM
pins: 1, 2

## CL32A106KAILNNE
designator C?, comment 10uF
CAP CER 10UF 25V X5R 1210; Part Number: CL32A106KAILNNE; Manufacturer: Samsung Electro-Mechanics America, Inc.; TemperatureRange: -55C ~ 85C; Tolerance: 10%; Value: 10uF; PartId: 18800; Supplier 1: Digi-Key; Supplier Part Number 1: 1276-3305-2-ND; ComponentLink1Description: Datasheet; ComponentLink1URL: http://www.samsungsem.com/kr/front/downloadcms.do?path=/kr/support/product-search/mlcc/__icsFiles/afieldfile/2014/11/05&fileName=C_CL32A106KAILNNE.pdf; ComponentLink2Description: Digi-Key Listing; ComponentLink2URL: https://www.digikey.com/product-detail/en/samsung-electro-mechanics-america-inc/CL32A106KAILNNE/1276-3305-2-ND/3888963; TemperatureCoefficient: X5R; Voltage: 25V; Price: 0.1733; Device Package: 1210 (3225 Metric)
footprint CAP 1210/3225 - 2.2MM
pins: 1, 2

## CL32A106KAJNNNE
designator C?, comment 10uF
CAP CER 10UF 25V X5R 1210; Part Number: CL32A106KAJNNNE; Manufacturer: Samsung Electro-Mechanics America, Inc.; TemperatureRange: -55C ~ 85C; Tolerance: 10%; Value: 10uF; PartId: 19334; Supplier 1: Digi-Key; Supplier Part Number 1: 1276-3360-2-ND; ComponentLink1Description: Datasheet; ComponentLink1URL: http://www.samsungsem.com/kr/front/downloadcms.do?path=/kr/support/product-search/mlcc/__icsFiles/afieldfile/2014/11/05&fileName=C_CL32A106KAJNNNE.pdf; ComponentLink2Description: Digi-Key Listing; ComponentLink2URL: https://www.digikey.com/product-detail/en/samsung-electro-mechanics-america-inc/CL32A106KAJNNNE/1276-3360-2-ND/3889018; TemperatureCoefficient: X5R; Voltage: 25V; Price: 0.1841; Device Package: 1210 (3225 Metric)
footprint CAP 1210/3225 - 2.8MM
pins: 1, 2

## CL32A106KATLNNE
designator C?, comment 10uF
CAP CER 10UF 25V X5R 1210; Part Number: CL32A106KATLNNE; Manufacturer: Samsung Electro-Mechanics America, Inc.; TemperatureRange: -55C ~ 85C; Tolerance: 10%; Value: 10uF; PartId: 18501; Supplier 1: Digi-Key; Supplier Part Number 1: 1276-3306-2-ND; ComponentLink1Description: Datasheet; ComponentLink1URL: //media.digikey.com/pdf/Data%20Sheets/Samsung%20PDFs/MLCC_Catalog_2015.pdf; ComponentLink2Description: Digi-Key Listing; ComponentLink2URL: https://www.digikey.com/product-detail/en/samsung-electro-mechanics-america-inc/CL32A106KATLNNE/1276-3306-2-ND/3888964; TemperatureCoefficient: X5R; Voltage: 25V; Price: 0.1733; Device Package: 1210 (3225 Metric)
footprint CAP 1210/3225 - 1.8MM
pins: 1, 2

## CL32A106KAULNNE
designator C?, comment 10uF
CAP CER 10UF 25V X5R 1210; Part Number: CL32A106KAULNNE; Manufacturer: Samsung Electro-Mechanics America, Inc.; TemperatureRange: -55C ~ 85C; Tolerance: 10%; Value: 10uF; PartId: 18571; Supplier 1: Digi-Key; Supplier Part Number 1: 1276-1854-2-ND; ComponentLink1Description: Datasheet; ComponentLink1URL: http://www.samsungsem.com/kr/support/product-search/mlcc/__icsFiles/afieldfile/2016/08/18/S_CL32A106KAULNNE.pdf; ComponentLink2Description: Digi-Key Listing; ComponentLink2URL: https://www.digikey.com/product-detail/en/samsung-electro-mechanics-america-inc/CL32A106KAULNNE/1276-1854-2-ND/3887512; TemperatureCoefficient: X5R; Voltage: 25V; Price: 0.0823; Device Package: 1210 (3225 Metric)
footprint CAP 1210/3225 - 2.0MM
pins: 1, 2

## CL32A106KBJNNNE
designator C?, comment 10uF
CAP CER 10UF 50V X5R 1210; Part Number: CL32A106KBJNNNE; Manufacturer: Samsung Electro-Mechanics America, Inc.; TemperatureRange: -55C ~ 85C; Tolerance: 10%; Value: 10uF; PartId: 19079; Supplier 1: Digi-Key; Supplier Part Number 1: 1276-3363-2-ND; ComponentLink1Description: Datasheet; ComponentLink1URL: http://www.samsungsem.com/kr/front/downloadcms.do?path=/kr/support/product-search/mlcc/__icsFiles/afieldfile/2014/11/05&fileName=C_CL32A106KBJNNNE.pdf; ComponentLink2Description: Digi-Key Listing; ComponentLink2URL: https://www.digikey.com/product-detail/en/samsung-electro-mechanics-america-inc/CL32A106KBJNNNE/1276-3363-2-ND/3889021; TemperatureCoefficient: X5R; Voltage: 50V; Price: 0.3161; Device Package: 1210 (3225 Metric)
footprint CAP 1210/3225 - 2.8MM
pins: 1, 2

## CL32A106KLULNNE
designator C?, comment 10uF
CAP CER 10UF 35V X5R 1210; Part Number: CL32A106KLULNNE; Manufacturer: Samsung Electro-Mechanics America, Inc.; TemperatureRange: -55C ~ 85C; Tolerance: 10%; Value: 10uF; PartId: 19191; Supplier 1: Digi-Key; Supplier Part Number 1: 1276-3307-2-ND; ComponentLink1Description: Datasheet; ComponentLink1URL: http://www.samsungsem.com/kr/front/downloadcms.do?path=/kr/support/product-search/mlcc/__icsFiles/afieldfile/2014/11/05&fileName=C_CL32A106KLULNNE.pdf; ComponentLink2Description: Digi-Key Listing; ComponentLink2URL: https://www.digikey.com/product-detail/en/samsung-electro-mechanics-america-inc/CL32A106KLULNNE/1276-3307-2-ND/3888965; TemperatureCoefficient: X5R; Voltage: 35V; Price: 0.2166; Device Package: 1210 (3225 Metric)
footprint CAP 1210/3225 - 2.8MM
pins: 1, 2

## CL32A106KOCLNWE
designator C?, comment 10uF
CAP CER 10UF 16V X5R 1210; Part Number: CL32A106KOCLNWE; Manufacturer: Samsung Electro-Mechanics America, Inc.; TemperatureRange: -55C ~ 85C; Tolerance: 10%; Value: 10uF; PartId: 18115; Supplier 1: Digi-Key; Supplier Part Number 1: 1276-3309-2-ND; ComponentLink1Description: Datasheet; ComponentLink1URL: http://www.samsungsem.com/kr/front/downloadcms.do?path=/kr/support/product-search/mlcc/__icsFiles/afieldfile/2014/11/05&fileName=C_CL32A106KOCLNWE.pdf; ComponentLink2Description: Digi-Key Listing; ComponentLink2URL: https://www.digikey.com/product-detail/en/samsung-electro-mechanics-america-inc/CL32A106KOCLNWE/1276-3309-2-ND/3888967; TemperatureCoefficient: X5R; Voltage: 16V; Price: 0.1255; Device Package: 1210 (3225 Metric)
footprint CAP 1210/3225 - 1MM
pins: 1, 2

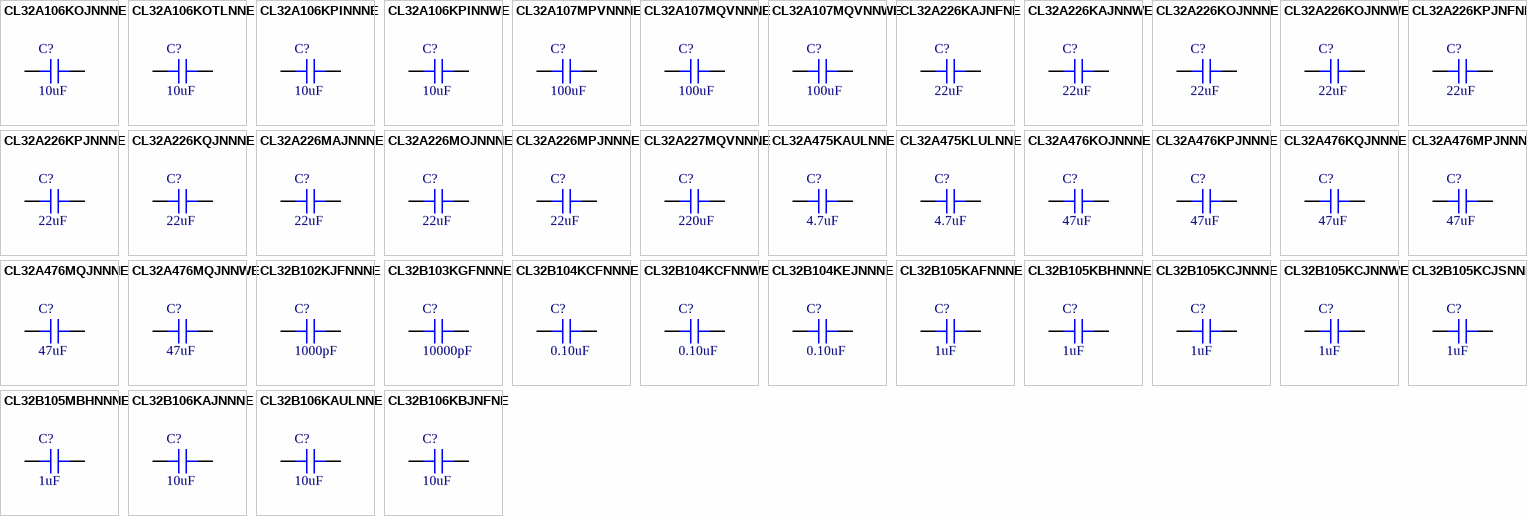
[diagram p33: symbols CL32A106KOJNNNE to CL32B106KBJNFNE]

## CL32A106KOJNNNE
designator C?, comment 10uF
CAP CER 10UF 16V X5R 1210; Part Number: CL32A106KOJNNNE; Manufacturer: Samsung Electro-Mechanics America, Inc.; TemperatureRange: -55C ~ 85C; Tolerance: 10%; Value: 10uF; PartId: 19265; Supplier 1: Digi-Key; Supplier Part Number 1: 1276-1290-2-ND; ComponentLink1Description: Datasheet; ComponentLink1URL: http://www.samsungsem.com/kr/front/downloadcms.do?path=/kr/support/product-search/mlcc/__icsFiles/afieldfile/2014/11/05&fileName=C_CL32A106KOJNNNE.pdf; ComponentLink2Description: Digi-Key Listing; ComponentLink2URL: https://www.digikey.com/product-detail/en/samsung-electro-mechanics-america-inc/CL32A106KOJNNNE/1276-1290-2-ND/3886948; TemperatureCoefficient: X5R; Voltage: 16V; Price: 0.1715; Device Package: 1210 (3225 Metric)
footprint CAP 1210/3225 - 2.8MM
pins: 1, 2

## CL32A106KOTLNNE
designator C?, comment 10uF
CAP CER 10UF 16V X5R 1210; Part Number: CL32A106KOTLNNE; Manufacturer: Samsung Electro-Mechanics America, Inc.; TemperatureRange: -55C ~ 85C; Tolerance: 10%; Value: 10uF; PartId: 18468; Supplier 1: Digi-Key; Supplier Part Number 1: 1276-3310-2-ND; ComponentLink1Description: Datasheet; ComponentLink1URL: http://www.samsungsem.com/kr/front/downloadcms.do?path=/kr/support/product-search/mlcc/__icsFiles/afieldfile/2014/11/05&fileName=C_CL32A106KOTLNNE.pdf; ComponentLink2Description: Digi-Key Listing; ComponentLink2URL: https://www.digikey.com/product-detail/en/samsung-electro-mechanics-america-inc/CL32A106KOTLNNE/1276-3310-2-ND/3888968; TemperatureCoefficient: X5R; Voltage: 16V; Price: 0.1625; Device Package: 1210 (3225 Metric)
footprint CAP 1210/3225 - 1.8MM
pins: 1, 2

## CL32A106KPINNNE
designator C?, comment 10uF
CAP CER 10UF 10V X5R 1210; Part Number: CL32A106KPINNNE; Manufacturer: Samsung Electro-Mechanics America, Inc.; TemperatureRange: -55C ~ 85C; Tolerance: 10%; Value: 10uF; PartId: 18756; Supplier 1: Digi-Key; Supplier Part Number 1: 1276-3311-2-ND; ComponentLink1Description: Datasheet; ComponentLink1URL: http://www.samsungsem.com/kr/front/downloadcms.do?path=/kr/support/product-search/mlcc/__icsFiles/afieldfile/2014/11/05&fileName=C_CL32A106KPINNNE.pdf; ComponentLink2Description: Digi-Key Listing; ComponentLink2URL: https://www.digikey.com/product-detail/en/samsung-electro-mechanics-america-inc/CL32A106KPINNNE/1276-3311-2-ND/3888969; TemperatureCoefficient: X5R; Voltage: 10V; Price: 0.1625; Device Package: 1210 (3225 Metric)
footprint CAP 1210/3225 - 2.2MM
pins: 1, 2

## CL32A106KPINNWE
designator C?, comment 10uF
CAP CER 10UF 10V X5R 1210; Part Number: CL32A106KPINNWE; Manufacturer: Samsung Electro-Mechanics America, Inc.; TemperatureRange: -55C ~ 85C; Tolerance: 10%; Value: 10uF; PartId: 18797; Supplier 1: Digi-Key; Supplier Part Number 1: 1276-3312-2-ND; ComponentLink1Description: Datasheet; ComponentLink1URL: http://www.samsungsem.com/kr/front/downloadcms.do?path=/kr/support/product-search/mlcc/__icsFiles/afieldfile/2014/11/05&fileName=C_CL32A106KPINNWE.pdf; ComponentLink2Description: Digi-Key Listing; ComponentLink2URL: https://www.digikey.com/product-detail/en/samsung-electro-mechanics-america-inc/CL32A106KPINNWE/1276-3312-2-ND/3888970; TemperatureCoefficient: X5R; Voltage: 10V; Price: 0.1625; Device Package: 1210 (3225 Metric)
footprint CAP 1210/3225 - 2.2MM
pins: 1, 2

## CL32A107MPVNNNE
designator C?, comment 100uF
CAP CER 100UF 10V X5R 1210; Part Number: CL32A107MPVNNNE; Manufacturer: Samsung Electro-Mechanics America, Inc.; TemperatureRange: -55C ~ 85C; Tolerance: 20%; Value: 100uF; PartId: 19177; Supplier 1: Digi-Key; Supplier Part Number 1: 1276-3364-2-ND; ComponentLink1Description: Datasheet; ComponentLink1URL: http://www.samsungsem.com/kr/support/product-search/mlcc/__icsFiles/afieldfile/2016/08/18/S_CL32A107MPVNNNE.pdf; ComponentLink2Description: Digi-Key Listing; ComponentLink2URL: https://www.digikey.com/product-detail/en/samsung-electro-mechanics-america-inc/CL32A107MPVNNNE/1276-3364-2-ND/3889022; TemperatureCoefficient: X5R; Voltage: 10V; Price: 1.0156; Device Package: 1210 (3225 Metric)
footprint CAP 1210/3225 - 2.8MM
pins: 1, 2

## CL32A107MQVNNNE
designator C?, comment 100uF
CAP CER 100UF 6.3V X5R 1210; Part Number: CL32A107MQVNNNE; Manufacturer: Samsung Electro-Mechanics America, Inc.; TemperatureRange: -55C ~ 85C; Tolerance: 20%; Value: 100uF; PartId: 19103; Supplier 1: Digi-Key; Supplier Part Number 1: 1276-1092-2-ND; ComponentLink1Description: Datasheet; ComponentLink1URL: http://www.samsungsem.com/kr/support/product-search/mlcc/__icsFiles/afieldfile/2016/08/18/S_CL32A107MQVNNNE.pdf; ComponentLink2Description: Digi-Key Listing; ComponentLink2URL: https://www.digikey.com/product-detail/en/samsung-electro-mechanics-america-inc/CL32A107MQVNNNE/1276-1092-2-ND/3886750; TemperatureCoefficient: X5R; Voltage: 6.3V; Price: 0.3912; Device Package: 1210 (3225 Metric)
footprint CAP 1210/3225 - 2.8MM
pins: 1, 2

## CL32A107MQVNNWE
designator C?, comment 100uF
CAP CER 100UF 6.3V X5R 1210; Part Number: CL32A107MQVNNWE; Manufacturer: Samsung Electro-Mechanics America, Inc.; TemperatureRange: -55C ~ 85C; Tolerance: 20%; Value: 100uF; PartId: 19367; Supplier 1: Digi-Key; Supplier Part Number 1: 1276-3366-2-ND; ComponentLink1Description: Datasheet; ComponentLink1URL: http://www.samsungsem.com/kr/support/product-search/mlcc/__icsFiles/afieldfile/2016/08/18/S_CL32A107MQVNNWE.pdf; ComponentLink2Description: Digi-Key Listing; ComponentLink2URL: https://www.digikey.com/product-detail/en/samsung-electro-mechanics-america-inc/CL32A107MQVNNWE/1276-3366-2-ND/3889024; TemperatureCoefficient: X5R; Voltage: 6.3V; Price: 0.3912; Device Package: 1210 (3225 Metric)
footprint CAP 1210/3225 - 2.8MM
pins: 1, 2

## CL32A226KAJNFNE
designator C?, comment 22uF
CAP CER 22UF 25V X5R 1210; Part Number: CL32A226KAJNFNE; Manufacturer: Samsung Electro-Mechanics America, Inc.; TemperatureRange: -55C ~ 85C; Tolerance: 10%; Value: 22uF; PartId: 19271; Supplier 1: Digi-Key; Supplier Part Number 1: 1276-3368-2-ND; ComponentLink1Description: Datasheet; ComponentLink1URL: http://www.samsungsem.com/kr/front/downloadcms.do?path=/kr/support/product-search/mlcc/__icsFiles/afieldfile/2014/11/05&fileName=C_CL32A226KAJNFNE.pdf; ComponentLink2Description: Digi-Key Listing; ComponentLink2URL: https://www.digikey.com/product-detail/en/samsung-electro-mechanics-america-inc/CL32A226KAJNFNE/1276-3368-2-ND/3889026; TemperatureCoefficient: X5R; Voltage: 25V; Price: 0.243; Device Package: 1210 (3225 Metric)
footprint CAP 1210/3225 - 2.8MM
pins: 1, 2